# EAGLE library part PRO-MICRO (library Controller)
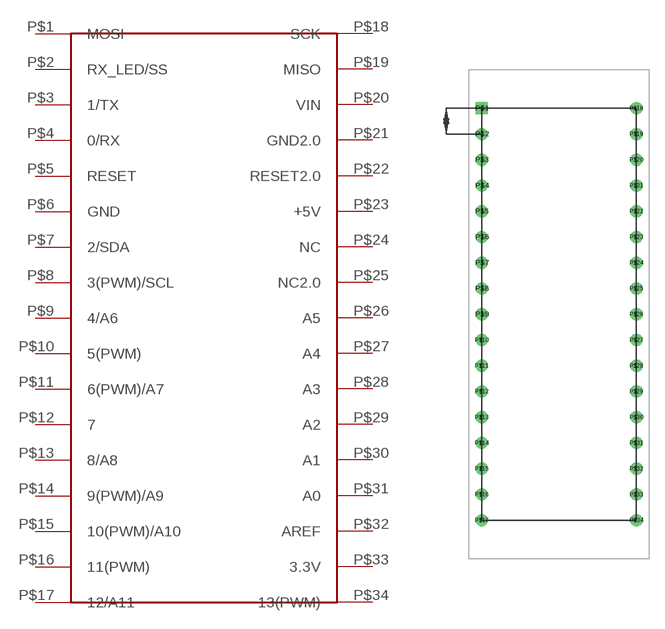
[diagram p0: symbol with the pads of PRO-MICRO; footprint PRO-MICRO]

Designator prefix -

## PRO-MICRO  [PRO-MICRO]
P$1  MOSI
P$2  RX_LED/SS
P$3  1/TX
P$4  0/RX
P$5  RESET
P$6  GND
P$7  2/SDA
P$8  3(PWM)/SCL
P$9  4/A6
P$10  5(PWM)
P$11  6(PWM)/A7
P$12  7
P$13  8/A8
P$14  9(PWM)/A9
P$15  10(PWM)/A10
P$16  11(PWM)
P$17  12/A11
P$18  SCK
P$19  MISO
P$20  VIN
P$21  GND2.0
P$22  RESET2.0
P$23  +5V
P$24  NC
P$25  NC2.0
P$26  A5
P$27  A4
P$28  A3
P$29  A2
P$30  A1
P$31  A0
P$32  AREF
P$33  3.3V
P$34  13(PWM)

## Footprint PRO-MICRO (pad centres in mm)
Dimensions of the Micro Board... Hopefully
drill 0.7 square: P$1 -8.89,6.35
drill 0.7: P$2 -8.89,3.81; P$3 -8.89,1.27; P$4 -8.89,-1.27; P$5 -8.89,-3.81; P$6 -8.89,-6.35; P$7 -8.89,-8.89; P$8 -8.89,-11.43; P$9 -8.89,-13.97; P$10 -8.89,-16.51; P$11 -8.89,-19.05; P$12 -8.89,-21.59; P$13 -8.89,-24.13; P$14 -8.89,-26.67; P$15 -8.89,-29.21; P$16 -8.89,-31.75; P$17 -8.89,-34.29; P$18 6.35,6.35; P$19 6.35,3.81; P$20 6.35,1.27; P$21 6.35,-1.27; P$22 6.35,-3.81; P$23 6.35,-6.35; P$24 6.35,-8.89; P$25 6.35,-11.43; P$26 6.35,-13.97; P$27 6.35,-16.51; P$28 6.35,-19.05; P$29 6.35,-21.59; P$30 6.35,-24.13; P$31 6.35,-26.67; P$32 6.35,-29.21; P$33 6.35,-31.75; P$34 6.35,-34.29